# Altium schematic symbol library SCH - POWER - LINEAR VREG - TI LM1117-3P3DCY.SchLib: 1 symbol
Pins are listed as number, name and electrical type; pins without a type are passive.

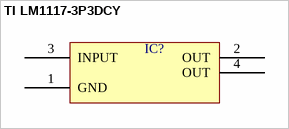
[diagram p0: symbol TI LM1117-3P3DCY]

## TI LM1117-3P3DCY
designator IC?  (value not drawn)
pins: 1 GND, 2 OUT, 3 INPUT, 4 OUT